# Altium integrated library Microchip PIC16 Part 1.IntLib: 1800 symbols (part 63 of 93)
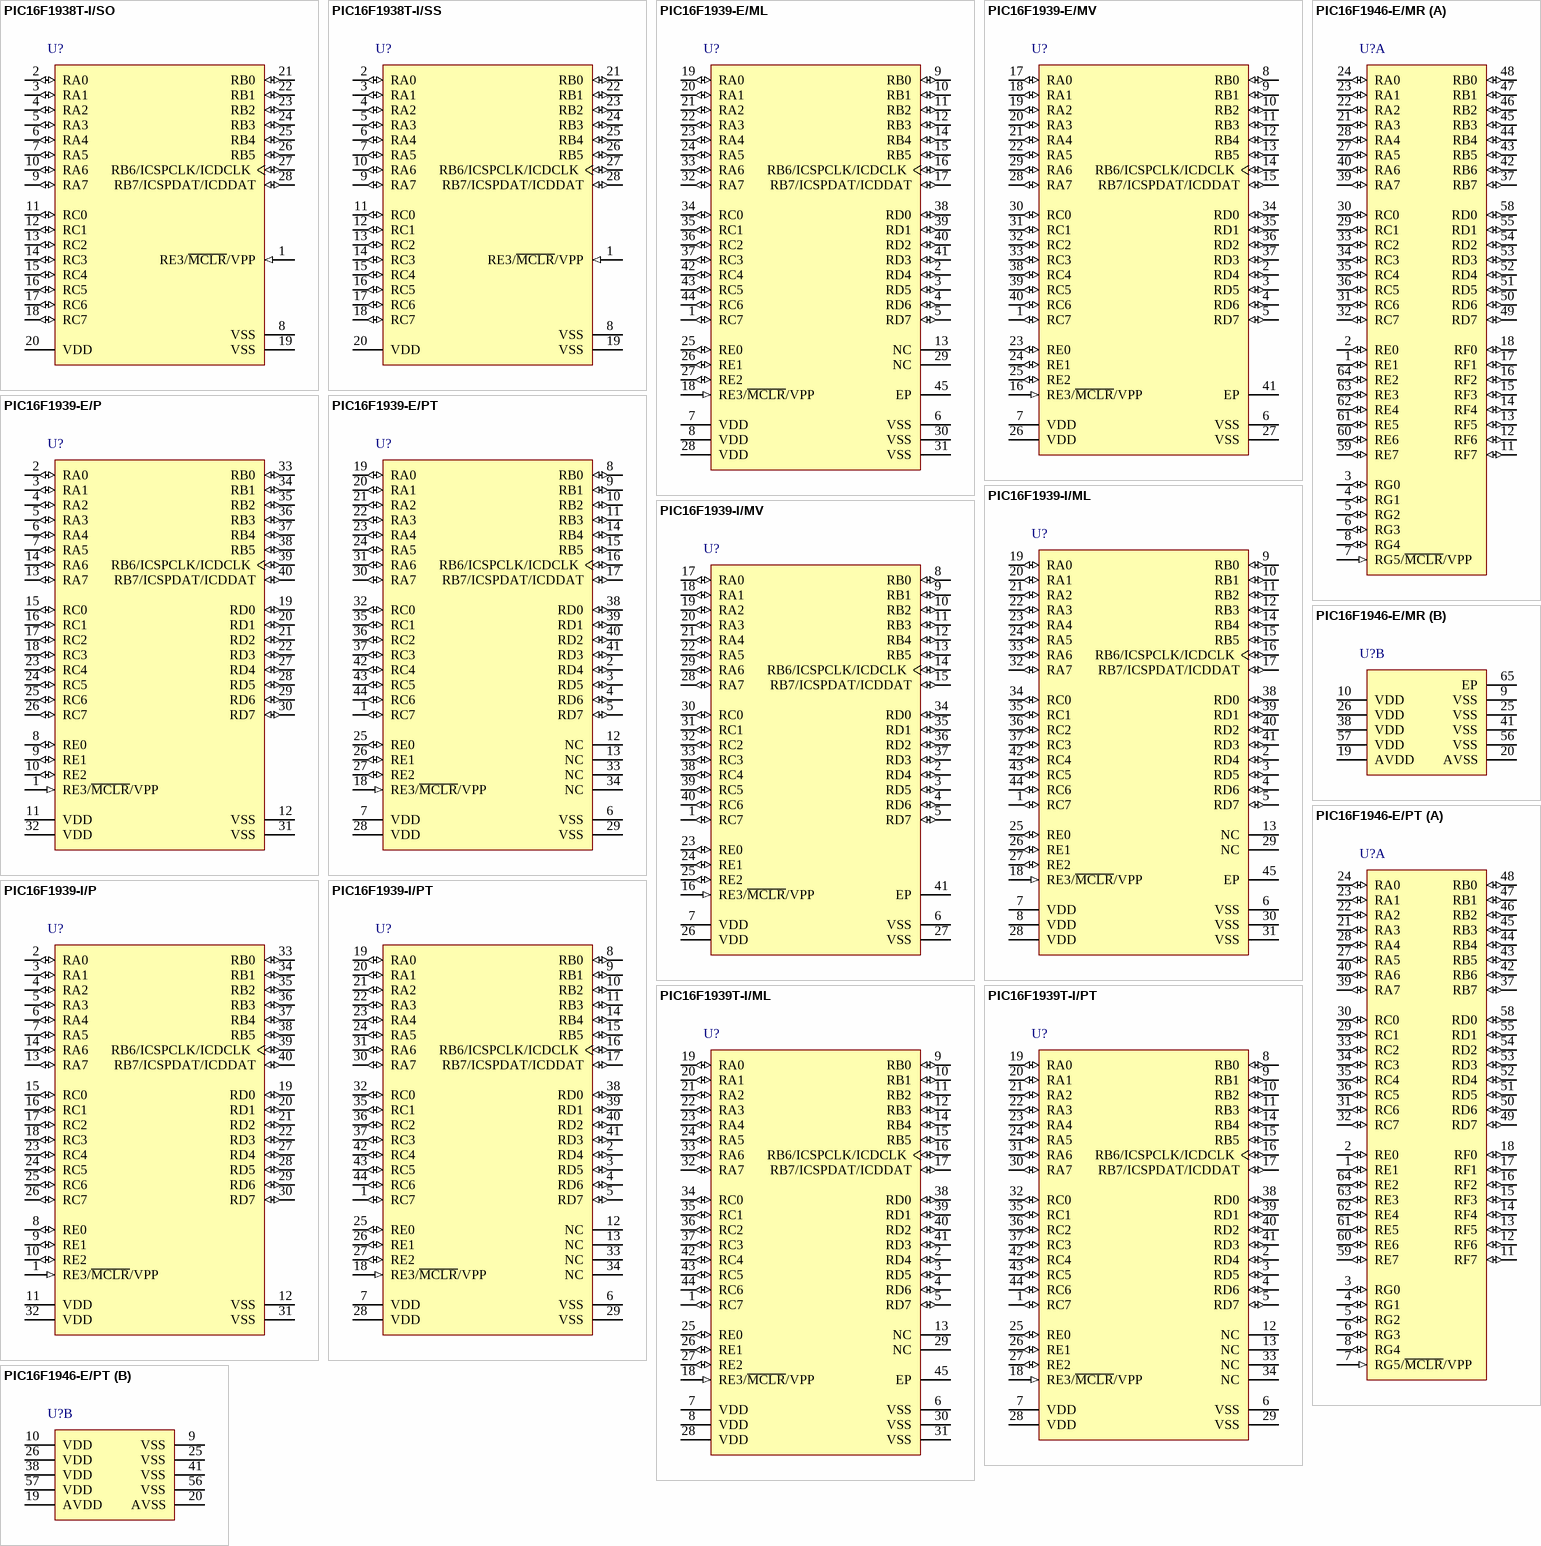
[diagram p161: symbols PIC16F1938T-I/SO to PIC16F1946-E/PT]

## PIC16F1946-E/PT
designator U?
Flash-Based, 8-Bit CMOS Microcontroller with LCD Driver and nanoWatt XLP Technology, 32 MHz, 53 I/O, -40 to 125 degC, 64-pin TQFP (PT64), Tray; Manufacturer: Microchip; PartNumber: PIC16F1946-E/PT; # of A/D Channels: 17; Digital Communication: 2 -A/E/USART, 2 -MSSP(SPI/I2C); EEPROM Data Memory (bytes): 256; I/O Pins: 53; Internal Oscillator: 32 MHz, 31 kHz; Max. CPU Speed MHz: 32; Memory Type: Flash; Operation Voltage Range: 1.8V - 5.5V; Program Memory KBytes: 14; Program Memory KWords: 8; RAM: 512; Timers: 4 - 8-bit, 1 - 16-bit; DatasheetVersion: Rev. D; PackageVersion: C04-085B, 12/2012; PackageReference: TQFP-PT64; PackageDescription: 64-Lead Plastic Thin Quad FlatPack, 10 x 10 mm Body, 0.5 mm Pitch; Supplier 1: Digi-Key; Supplier Part Number 1: PIC16F1946-E/PT-ND; Supplier 2: Farnell; Supplier Part Number 2: 1778452; Supplier 3: Farnell; Supplier Part Number 3: 1778452MPKG; Supplier 4: Newark; Supplier Part Number 4: 52R6174; Supplier 5: Newark; Supplier Part Number 5: 14R8974; Supplier 6: Mouser; Supplier Part Number 6: 579-PIC16F1946-E/PT; Packing: TRAY; RoHS: TRUE; Mounting Technology: Surface Mount; ComponentLink1Description: Datasheet; ComponentLink1URL: http://ww1.microchip.com/downloads/en/DeviceDoc/41414D.pdf; ComponentLink2Description: Package Specification; ComponentLink2URL: http://www.microchip.com/stellent/groups/techpub_sg/documents/packagingspec/en012702.pdf; ComponentLink3Description: URL Link1; ComponentLink3URL: Product URL:http://www.microchip.com/datasheet/PIC16F1946
footprint MCHP-TQFP-PT64_N (TQFP, 64-Leads, Body 10x10mm, Pitch 0.5mm, IPC Medium Density)
footprint MCHP-TQFP-PT64_L (TQFP, 64-Leads, Body 10x10mm, Pitch 0.5mm, IPC High Density)
footprint MCHP-TQFP-PT64_M (TQFP, 64-Leads, Body 10x10mm, Pitch 0.5mm, IPC Low Density)
part A pins: 1 RE1 (io), 2 RE0 (io), 3 RG0 (io), 4 RG1 (io), 5 RG2 (io), 6 RG3 (io), 7 RG5/~{MCLR}/VPP (in), 8 RG4 (io), 11 RF7 (io), 12 RF6 (io), 13 RF5 (io), 14 RF4 (io), 15 RF3 (io), 16 RF2 (io), 17 RF1 (io), 18 RF0 (io), 21 RA3 (io), 22 RA2 (io), 23 RA1 (io), 24 RA0 (io), 27 RA5 (io), 28 RA4 (io), 29 RC1 (io), 30 RC0 (io), 31 RC6 (io), 32 RC7 (io), 33 RC2 (io), 34 RC3 (io), 35 RC4 (io), 36 RC5 (io), 37 RB7 (io), 39 RA7 (io), 40 RA6 (io), 42 RB6 (io), 43 RB5 (io), 44 RB4 (io), 45 RB3 (io), 46 RB2 (io), 47 RB1 (io), 48 RB0 (io), 49 RD7 (io), 50 RD6 (io), 51 RD5 (io), 52 RD4 (io), 53 RD3 (io), 54 RD2 (io), 55 RD1 (io), 58 RD0 (io), 59 RE7 (io), 60 RE6 (io), 61 RE5 (io), 62 RE4 (io), 63 RE3 (io), 64 RE2 (io)
part B pins: 9 VSS (power) "Ground reference.", 10 VDD (power) "Positive supply.", 19 AVDD (power) "Analog positive supply.", 20 AVSS (power) "Analog ground reference.", 25 VSS (power) "Ground reference.", 26 VDD (power) "Positive supply.", 38 VDD (power) "Positive supply.", 41 VSS (power) "Ground reference.", 56 VSS (power) "Ground reference.", 57 VDD (power) "Positive supply."

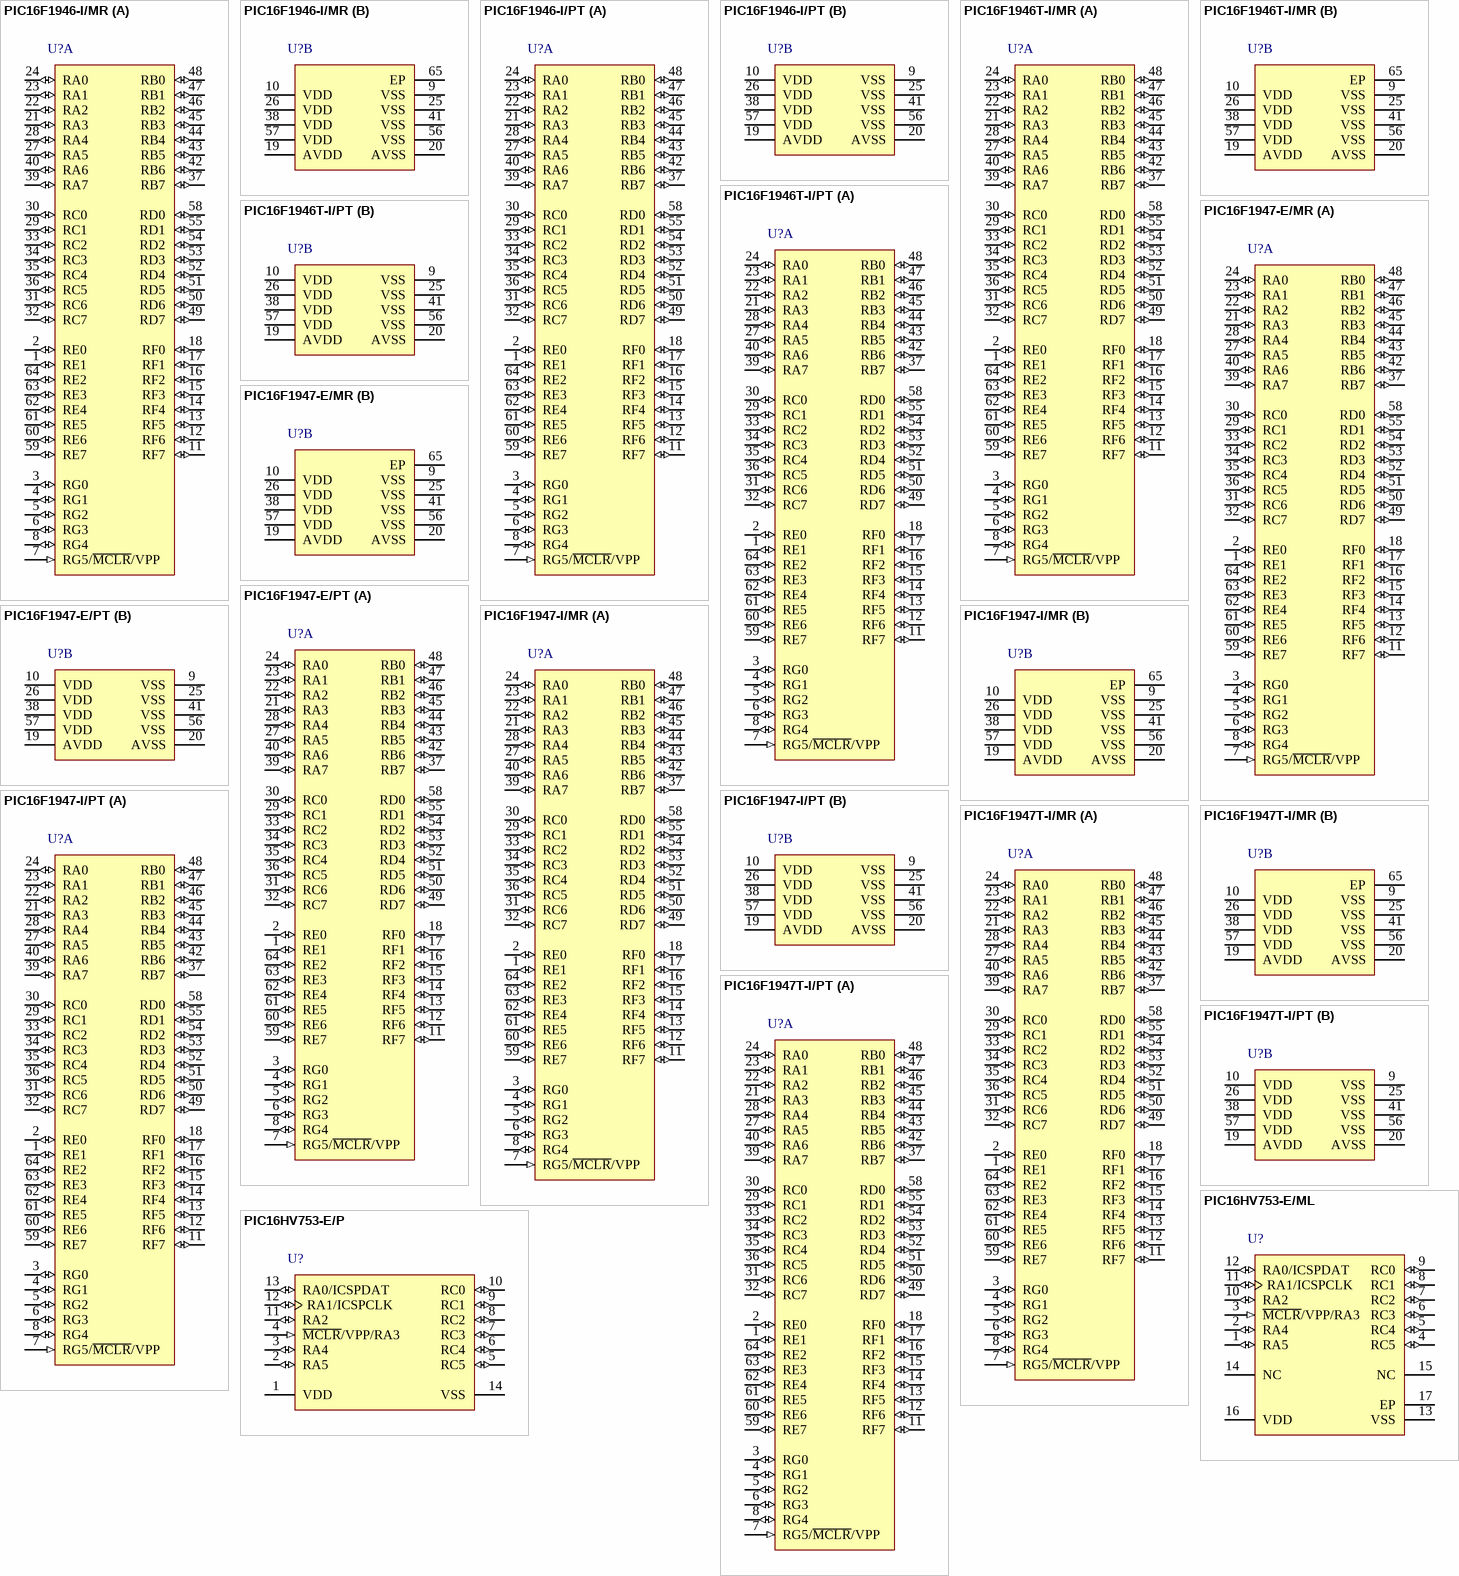
[diagram p64: symbols PIC16F1946-I/MR to PIC16HV753-E/P]

## PIC16F1946-I/MR
designator U?
Flash-Based, 8-Bit CMOS Microcontroller with LCD Driver and nanoWatt XLP Technology, 32 MHz, 53 I/O, -40 to 85 degC, 64-pin QFN (MR64), Tube; Manufacturer: Microchip; PartNumber: PIC16F1946-I/MR; # of A/D Channels: 17; Digital Communication: 2 -A/E/USART, 2 -MSSP(SPI/I2C); EEPROM Data Memory (bytes): 256; I/O Pins: 53; Internal Oscillator: 32 MHz, 31 kHz; Max. CPU Speed MHz: 32; Memory Type: Flash; Operation Voltage Range: 1.8V - 5.5V; Program Memory KBytes: 14; Program Memory KWords: 8; RAM: 512; Timers: 4 - 8-bit, 1 - 16-bit; DatasheetVersion: Rev. D; PackageVersion: C04-213A, 04/2013; PackageReference: QFN-MR64; PackageDescription: 64-Lead Plastic Quad Flat, No Lead Package, Body 9 x 9 mm, Pitch 0.5 mm; Supplier 1: Digi-Key; Supplier Part Number 1: PIC16F1946-I/MR-ND; Supplier 2: Farnell; Supplier Part Number 2: 1840984; Supplier 3: Farnell; Supplier Part Number 3: 1821962; Supplier 4: Newark; Supplier Part Number 4: 73R8390; Supplier 5: Mouser; Supplier Part Number 5: 579-PIC16F1946-I/MR; Packing: TUBE; RoHS: TRUE; Mounting Technology: Surface Mount; ComponentLink1Description: Datasheet; ComponentLink1URL: http://ww1.microchip.com/downloads/en/DeviceDoc/41414D.pdf; ComponentLink2Description: Package Specification; ComponentLink2URL: http://www.microchip.com/stellent/groups/techpub_sg/documents/packagingspec/en012702.pdf; ComponentLink3Description: URL Link1; ComponentLink3URL: Product URL:http://www.microchip.com/datasheet/PIC16F1946
footprint MCHP-QFN-MR64-7700X7700TP_N (QFN, 64-Leads, Body 9x9mm, Pitch 0.5mm, Thermal Pad 7.7x7.7mm, IPC Medium Density)
footprint MCHP-QFN-MR64-7700X7700TP_L (QFN, 64-Leads, Body 9x9mm, Pitch 0.5mm, Thermal Pad 7.7x7.7mm, IPC High Density)
footprint MCHP-QFN-MR64-7700X7700TP_M (QFN, 64-Leads, Body 9x9mm, Pitch 0.5mm, Thermal Pad 7.7x7.7mm, IPC Low Density)
part A pins: 1 RE1 (io), 2 RE0 (io), 3 RG0 (io), 4 RG1 (io), 5 RG2 (io), 6 RG3 (io), 7 RG5/~{MCLR}/VPP (in), 8 RG4 (io), 11 RF7 (io), 12 RF6 (io), 13 RF5 (io), 14 RF4 (io), 15 RF3 (io), 16 RF2 (io), 17 RF1 (io), 18 RF0 (io), 21 RA3 (io), 22 RA2 (io), 23 RA1 (io), 24 RA0 (io), 27 RA5 (io), 28 RA4 (io), 29 RC1 (io), 30 RC0 (io), 31 RC6 (io), 32 RC7 (io), 33 RC2 (io), 34 RC3 (io), 35 RC4 (io), 36 RC5 (io), 37 RB7 (io), 39 RA7 (io), 40 RA6 (io), 42 RB6 (io), 43 RB5 (io), 44 RB4 (io), 45 RB3 (io), 46 RB2 (io), 47 RB1 (io), 48 RB0 (io), 49 RD7 (io), 50 RD6 (io), 51 RD5 (io), 52 RD4 (io), 53 RD3 (io), 54 RD2 (io), 55 RD1 (io), 58 RD0 (io), 59 RE7 (io), 60 RE6 (io), 61 RE5 (io), 62 RE4 (io), 63 RE3 (io), 64 RE2 (io)
part B pins: 9 VSS (power) "Ground reference.", 10 VDD (power) "Positive supply.", 19 AVDD (power) "Analog positive supply.", 20 AVSS (power) "Analog ground reference.", 25 VSS (power) "Ground reference.", 26 VDD (power) "Positive supply.", 38 VDD (power) "Positive supply.", 41 VSS (power) "Ground reference.", 56 VSS (power) "Ground reference.", 57 VDD (power) "Positive supply.", 65 EP

## PIC16F1946-I/PT
designator U?
Flash-Based, 8-Bit CMOS Microcontroller with LCD Driver and nanoWatt XLP Technology, 32 MHz, 53 I/O, -40 to 85 degC, 64-pin TQFP (PT64), Tray; Manufacturer: Microchip; PartNumber: PIC16F1946-I/PT; # of A/D Channels: 17; Digital Communication: 2 -A/E/USART, 2 -MSSP(SPI/I2C); EEPROM Data Memory (bytes): 256; I/O Pins: 53; Internal Oscillator: 32 MHz, 31 kHz; Max. CPU Speed MHz: 32; Memory Type: Flash; Operation Voltage Range: 1.8V - 5.5V; Program Memory KBytes: 14; Program Memory KWords: 8; RAM: 512; Timers: 4 - 8-bit, 1 - 16-bit; DatasheetVersion: Rev. D; PackageVersion: C04-085B, 12/2012; PackageReference: TQFP-PT64; PackageDescription: 64-Lead Plastic Thin Quad FlatPack, 10 x 10 mm Body, 0.5 mm Pitch; Supplier 1: Digi-Key; Supplier Part Number 1: PIC16F1946-I/PT-ND; Supplier 2: Farnell; Supplier Part Number 2: 1778453; Supplier 3: Farnell; Supplier Part Number 3: 1778453MPKG; Supplier 4: Newark; Supplier Part Number 4: 14R8975; Supplier 5: Mouser; Supplier Part Number 5: 579-PIC16F1946-I/PT; Packing: TRAY; RoHS: TRUE; Mounting Technology: Surface Mount; ComponentLink1Description: Datasheet; ComponentLink1URL: http://ww1.microchip.com/downloads/en/DeviceDoc/41414D.pdf; ComponentLink2Description: Package Specification; ComponentLink2URL: http://www.microchip.com/stellent/groups/techpub_sg/documents/packagingspec/en012702.pdf; ComponentLink3Description: URL Link1; ComponentLink3URL: Product URL:http://www.microchip.com/datasheet/PIC16F1946
footprint MCHP-TQFP-PT64_N (TQFP, 64-Leads, Body 10x10mm, Pitch 0.5mm, IPC Medium Density)
footprint MCHP-TQFP-PT64_L (TQFP, 64-Leads, Body 10x10mm, Pitch 0.5mm, IPC High Density)
footprint MCHP-TQFP-PT64_M (TQFP, 64-Leads, Body 10x10mm, Pitch 0.5mm, IPC Low Density)
part A pins: 1 RE1 (io), 2 RE0 (io), 3 RG0 (io), 4 RG1 (io), 5 RG2 (io), 6 RG3 (io), 7 RG5/~{MCLR}/VPP (in), 8 RG4 (io), 11 RF7 (io), 12 RF6 (io), 13 RF5 (io), 14 RF4 (io), 15 RF3 (io), 16 RF2 (io), 17 RF1 (io), 18 RF0 (io), 21 RA3 (io), 22 RA2 (io), 23 RA1 (io), 24 RA0 (io), 27 RA5 (io), 28 RA4 (io), 29 RC1 (io), 30 RC0 (io), 31 RC6 (io), 32 RC7 (io), 33 RC2 (io), 34 RC3 (io), 35 RC4 (io), 36 RC5 (io), 37 RB7 (io), 39 RA7 (io), 40 RA6 (io), 42 RB6 (io), 43 RB5 (io), 44 RB4 (io), 45 RB3 (io), 46 RB2 (io), 47 RB1 (io), 48 RB0 (io), 49 RD7 (io), 50 RD6 (io), 51 RD5 (io), 52 RD4 (io), 53 RD3 (io), 54 RD2 (io), 55 RD1 (io), 58 RD0 (io), 59 RE7 (io), 60 RE6 (io), 61 RE5 (io), 62 RE4 (io), 63 RE3 (io), 64 RE2 (io)
part B pins: 9 VSS (power) "Ground reference.", 10 VDD (power) "Positive supply.", 19 AVDD (power) "Analog positive supply.", 20 AVSS (power) "Analog ground reference.", 25 VSS (power) "Ground reference.", 26 VDD (power) "Positive supply.", 38 VDD (power) "Positive supply.", 41 VSS (power) "Ground reference.", 56 VSS (power) "Ground reference.", 57 VDD (power) "Positive supply."

## PIC16F1946T-I/MR
designator U?
Flash-Based, 8-Bit CMOS Microcontroller with LCD Driver and nanoWatt XLP Technology, 32 MHz, 53 I/O, -40 to 85 degC, 64-pin QFN (MR64), Tape and Reel; Manufacturer: Microchip; PartNumber: PIC16F1946T-I/MR; # of A/D Channels: 17; Digital Communication: 2 -A/E/USART, 2 -MSSP(SPI/I2C); EEPROM Data Memory (bytes): 256; I/O Pins: 53; Internal Oscillator: 32 MHz, 31 kHz; Max. CPU Speed MHz: 32; Memory Type: Flash; Operation Voltage Range: 1.8V - 5.5V; Packing: T/R; Program Memory KBytes: 14; Program Memory KWords: 8; RAM: 512; Timers: 4 - 8-bit, 1 - 16-bit; DatasheetVersion: Rev. D; PackageVersion: C04-213A, 04/2013; PackageReference: QFN-MR64; PackageDescription: 64-Lead Plastic Quad Flat, No Lead Package, Body 9 x 9 mm, Pitch 0.5 mm; Supplier 1: Digi-Key; Supplier Part Number 1: PIC16F1946T-I/MR-ND; Supplier 2: Mouser; Supplier Part Number 2: 579-PIC16F1946T-I/MR; RoHS: TRUE; Mounting Technology: Surface Mount; ComponentLink1Description: Datasheet; ComponentLink1URL: http://ww1.microchip.com/downloads/en/DeviceDoc/41414D.pdf; ComponentLink2Description: Package Specification; ComponentLink2URL: http://www.microchip.com/stellent/groups/techpub_sg/documents/packagingspec/en012702.pdf; ComponentLink3Description: URL Link1; ComponentLink3URL: Product URL:http://www.microchip.com/datasheet/PIC16F1946
footprint MCHP-QFN-MR64-7700X7700TP_N (QFN, 64-Leads, Body 9x9mm, Pitch 0.5mm, Thermal Pad 7.7x7.7mm, IPC Medium Density)
footprint MCHP-QFN-MR64-7700X7700TP_L (QFN, 64-Leads, Body 9x9mm, Pitch 0.5mm, Thermal Pad 7.7x7.7mm, IPC High Density)
footprint MCHP-QFN-MR64-7700X7700TP_M (QFN, 64-Leads, Body 9x9mm, Pitch 0.5mm, Thermal Pad 7.7x7.7mm, IPC Low Density)
part A pins: 1 RE1 (io), 2 RE0 (io), 3 RG0 (io), 4 RG1 (io), 5 RG2 (io), 6 RG3 (io), 7 RG5/~{MCLR}/VPP (in), 8 RG4 (io), 11 RF7 (io), 12 RF6 (io), 13 RF5 (io), 14 RF4 (io), 15 RF3 (io), 16 RF2 (io), 17 RF1 (io), 18 RF0 (io), 21 RA3 (io), 22 RA2 (io), 23 RA1 (io), 24 RA0 (io), 27 RA5 (io), 28 RA4 (io), 29 RC1 (io), 30 RC0 (io), 31 RC6 (io), 32 RC7 (io), 33 RC2 (io), 34 RC3 (io), 35 RC4 (io), 36 RC5 (io), 37 RB7 (io), 39 RA7 (io), 40 RA6 (io), 42 RB6 (io), 43 RB5 (io), 44 RB4 (io), 45 RB3 (io), 46 RB2 (io), 47 RB1 (io), 48 RB0 (io), 49 RD7 (io), 50 RD6 (io), 51 RD5 (io), 52 RD4 (io), 53 RD3 (io), 54 RD2 (io), 55 RD1 (io), 58 RD0 (io), 59 RE7 (io), 60 RE6 (io), 61 RE5 (io), 62 RE4 (io), 63 RE3 (io), 64 RE2 (io)
part B pins: 9 VSS (power) "Ground reference.", 10 VDD (power) "Positive supply.", 19 AVDD (power) "Analog positive supply.", 20 AVSS (power) "Analog ground reference.", 25 VSS (power) "Ground reference.", 26 VDD (power) "Positive supply.", 38 VDD (power) "Positive supply.", 41 VSS (power) "Ground reference.", 56 VSS (power) "Ground reference.", 57 VDD (power) "Positive supply.", 65 EP

## PIC16F1946T-I/PT
designator U?
Flash-Based, 8-Bit CMOS Microcontroller with LCD Driver and nanoWatt XLP Technology, 32 MHz, 53 I/O, -40 to 85 degC, 64-pin TQFP (PT64), Tape and Reel; Manufacturer: Microchip; PartNumber: PIC16F1946T-I/PT; # of A/D Channels: 17; Digital Communication: 2 -A/E/USART, 2 -MSSP(SPI/I2C); EEPROM Data Memory (bytes): 256; I/O Pins: 53; Internal Oscillator: 32 MHz, 31 kHz; Max. CPU Speed MHz: 32; Memory Type: Flash; Operation Voltage Range: 1.8V - 5.5V; Packing: T/R; Program Memory KBytes: 14; Program Memory KWords: 8; RAM: 512; Timers: 4 - 8-bit, 1 - 16-bit; DatasheetVersion: Rev. D; PackageVersion: C04-085B, 12/2012; PackageReference: TQFP-PT64; PackageDescription: 64-Lead Plastic Thin Quad FlatPack, 10 x 10 mm Body, 0.5 mm Pitch; Supplier 1: Digi-Key; Supplier Part Number 1: PIC16F1946T-I/PT-ND; Supplier 2: Mouser; Supplier Part Number 2: 579-PIC16F1946T-I/PT; RoHS: TRUE; Mounting Technology: Surface Mount; ComponentLink1Description: Datasheet; ComponentLink1URL: http://ww1.microchip.com/downloads/en/DeviceDoc/41414D.pdf; ComponentLink2Description: Package Specification; ComponentLink2URL: http://www.microchip.com/stellent/groups/techpub_sg/documents/packagingspec/en012702.pdf; ComponentLink3Description: URL Link1; ComponentLink3URL: Product URL:http://www.microchip.com/datasheet/PIC16F1946
footprint MCHP-TQFP-PT64_N (TQFP, 64-Leads, Body 10x10mm, Pitch 0.5mm, IPC Medium Density)
footprint MCHP-TQFP-PT64_L (TQFP, 64-Leads, Body 10x10mm, Pitch 0.5mm, IPC High Density)
footprint MCHP-TQFP-PT64_M (TQFP, 64-Leads, Body 10x10mm, Pitch 0.5mm, IPC Low Density)
part A pins: 1 RE1 (io), 2 RE0 (io), 3 RG0 (io), 4 RG1 (io), 5 RG2 (io), 6 RG3 (io), 7 RG5/~{MCLR}/VPP (in), 8 RG4 (io), 11 RF7 (io), 12 RF6 (io), 13 RF5 (io), 14 RF4 (io), 15 RF3 (io), 16 RF2 (io), 17 RF1 (io), 18 RF0 (io), 21 RA3 (io), 22 RA2 (io), 23 RA1 (io), 24 RA0 (io), 27 RA5 (io), 28 RA4 (io), 29 RC1 (io), 30 RC0 (io), 31 RC6 (io), 32 RC7 (io), 33 RC2 (io), 34 RC3 (io), 35 RC4 (io), 36 RC5 (io), 37 RB7 (io), 39 RA7 (io), 40 RA6 (io), 42 RB6 (io), 43 RB5 (io), 44 RB4 (io), 45 RB3 (io), 46 RB2 (io), 47 RB1 (io), 48 RB0 (io), 49 RD7 (io), 50 RD6 (io), 51 RD5 (io), 52 RD4 (io), 53 RD3 (io), 54 RD2 (io), 55 RD1 (io), 58 RD0 (io), 59 RE7 (io), 60 RE6 (io), 61 RE5 (io), 62 RE4 (io), 63 RE3 (io), 64 RE2 (io)
part B pins: 9 VSS (power) "Ground reference.", 10 VDD (power) "Positive supply.", 19 AVDD (power) "Analog positive supply.", 20 AVSS (power) "Analog ground reference.", 25 VSS (power) "Ground reference.", 26 VDD (power) "Positive supply.", 38 VDD (power) "Positive supply.", 41 VSS (power) "Ground reference.", 56 VSS (power) "Ground reference.", 57 VDD (power) "Positive supply."

## PIC16F1947-E/MR
designator U?
Flash-Based, 8-Bit CMOS Microcontroller with LCD Driver and nanoWatt XLP Technology, 32 MHz, 53 I/O, -40 to 125 degC, 64-pin QFN (MR64), Tube; Manufacturer: Microchip; PartNumber: PIC16F1947-E/MR; # of A/D Channels: 17; Digital Communication: 2 -A/E/USART, 2 -MSSP(SPI/I2C); EEPROM Data Memory (bytes): 256; I/O Pins: 53; Internal Oscillator: 32 MHz, 31 kHz; Max. CPU Speed MHz: 32; Memory Type: Flash; Operation Voltage Range: 1.8V - 5.5V; Program Memory KBytes: 28; Program Memory KWords: 16; RAM: 1024; Timers: 4 - 8-bit, 1 - 16-bit; DatasheetVersion: Rev. D; PackageVersion: C04-213A, 04/2013; PackageReference: QFN-MR64; PackageDescription: 64-Lead Plastic Quad Flat, No Lead Package, Body 9 x 9 mm, Pitch 0.5 mm; Supplier 1: Digi-Key; Supplier Part Number 1: PIC16F1947-E/MR-ND; Supplier 2: Mouser; Supplier Part Number 2: 579-PIC16F1947-E/MR; Packing: TUBE; RoHS: TRUE; Mounting Technology: Surface Mount; ComponentLink1Description: Datasheet; ComponentLink1URL: http://ww1.microchip.com/downloads/en/DeviceDoc/41414D.pdf; ComponentLink2Description: Package Specification; ComponentLink2URL: http://www.microchip.com/stellent/groups/techpub_sg/documents/packagingspec/en012702.pdf; ComponentLink3Description: URL Link1; ComponentLink3URL: Product URL:http://www.microchip.com/datasheet/PIC16F1947
footprint MCHP-QFN-MR64-7700X7700TP_N (QFN, 64-Leads, Body 9x9mm, Pitch 0.5mm, Thermal Pad 7.7x7.7mm, IPC Medium Density)
footprint MCHP-QFN-MR64-7700X7700TP_L (QFN, 64-Leads, Body 9x9mm, Pitch 0.5mm, Thermal Pad 7.7x7.7mm, IPC High Density)
footprint MCHP-QFN-MR64-7700X7700TP_M (QFN, 64-Leads, Body 9x9mm, Pitch 0.5mm, Thermal Pad 7.7x7.7mm, IPC Low Density)
part A pins: 1 RE1 (io), 2 RE0 (io), 3 RG0 (io), 4 RG1 (io), 5 RG2 (io), 6 RG3 (io), 7 RG5/~{MCLR}/VPP (in), 8 RG4 (io), 11 RF7 (io), 12 RF6 (io), 13 RF5 (io), 14 RF4 (io), 15 RF3 (io), 16 RF2 (io), 17 RF1 (io), 18 RF0 (io), 21 RA3 (io), 22 RA2 (io), 23 RA1 (io), 24 RA0 (io), 27 RA5 (io), 28 RA4 (io), 29 RC1 (io), 30 RC0 (io), 31 RC6 (io), 32 RC7 (io), 33 RC2 (io), 34 RC3 (io), 35 RC4 (io), 36 RC5 (io), 37 RB7 (io), 39 RA7 (io), 40 RA6 (io), 42 RB6 (io), 43 RB5 (io), 44 RB4 (io), 45 RB3 (io), 46 RB2 (io), 47 RB1 (io), 48 RB0 (io), 49 RD7 (io), 50 RD6 (io), 51 RD5 (io), 52 RD4 (io), 53 RD3 (io), 54 RD2 (io), 55 RD1 (io), 58 RD0 (io), 59 RE7 (io), 60 RE6 (io), 61 RE5 (io), 62 RE4 (io), 63 RE3 (io), 64 RE2 (io)
part B pins: 9 VSS (power) "Ground reference.", 10 VDD (power) "Positive supply.", 19 AVDD (power) "Analog positive supply.", 20 AVSS (power) "Analog ground reference.", 25 VSS (power) "Ground reference.", 26 VDD (power) "Positive supply.", 38 VDD (power) "Positive supply.", 41 VSS (power) "Ground reference.", 56 VSS (power) "Ground reference.", 57 VDD (power) "Positive supply.", 65 EP

## PIC16F1947-E/PT
designator U?
Flash-Based, 8-Bit CMOS Microcontroller with LCD Driver and nanoWatt XLP Technology, 32 MHz, 53 I/O, -40 to 125 degC, 64-pin TQFP (PT64), Tray; Manufacturer: Microchip; PartNumber: PIC16F1947-E/PT; # of A/D Channels: 17; Digital Communication: 2 -A/E/USART, 2 -MSSP(SPI/I2C); EEPROM Data Memory (bytes): 256; I/O Pins: 53; Internal Oscillator: 32 MHz, 31 kHz; Max. CPU Speed MHz: 32; Memory Type: Flash; Operation Voltage Range: 1.8V - 5.5V; Program Memory KBytes: 28; Program Memory KWords: 16; RAM: 1024; Timers: 4 - 8-bit, 1 - 16-bit; DatasheetVersion: Rev. D; PackageVersion: C04-085B, 12/2012; PackageReference: TQFP-PT64; PackageDescription: 64-Lead Plastic Thin Quad FlatPack, 10 x 10 mm Body, 0.5 mm Pitch; Supplier 1: Digi-Key; Supplier Part Number 1: PIC16F1947-E/PT-ND; Supplier 2: Farnell; Supplier Part Number 2: 1778454MPKG; Supplier 3: Farnell; Supplier Part Number 3: 1778454; Supplier 4: Newark; Supplier Part Number 4: 14R8977; Supplier 5: Mouser; Supplier Part Number 5: 579-PIC16F1947-E/PT; Packing: TRAY; RoHS: TRUE; Mounting Technology: Surface Mount; ComponentLink1Description: Datasheet; ComponentLink1URL: http://ww1.microchip.com/downloads/en/DeviceDoc/41414D.pdf; ComponentLink2Description: Package Specification; ComponentLink2URL: http://www.microchip.com/stellent/groups/techpub_sg/documents/packagingspec/en012702.pdf; ComponentLink3Description: URL Link1; ComponentLink3URL: Product URL:http://www.microchip.com/datasheet/PIC16F1947
footprint MCHP-TQFP-PT64_N (TQFP, 64-Leads, Body 10x10mm, Pitch 0.5mm, IPC Medium Density)
footprint MCHP-TQFP-PT64_L (TQFP, 64-Leads, Body 10x10mm, Pitch 0.5mm, IPC High Density)
footprint MCHP-TQFP-PT64_M (TQFP, 64-Leads, Body 10x10mm, Pitch 0.5mm, IPC Low Density)
part A pins: 1 RE1 (io), 2 RE0 (io), 3 RG0 (io), 4 RG1 (io), 5 RG2 (io), 6 RG3 (io), 7 RG5/~{MCLR}/VPP (in), 8 RG4 (io), 11 RF7 (io), 12 RF6 (io), 13 RF5 (io), 14 RF4 (io), 15 RF3 (io), 16 RF2 (io), 17 RF1 (io), 18 RF0 (io), 21 RA3 (io), 22 RA2 (io), 23 RA1 (io), 24 RA0 (io), 27 RA5 (io), 28 RA4 (io), 29 RC1 (io), 30 RC0 (io), 31 RC6 (io), 32 RC7 (io), 33 RC2 (io), 34 RC3 (io), 35 RC4 (io), 36 RC5 (io), 37 RB7 (io), 39 RA7 (io), 40 RA6 (io), 42 RB6 (io), 43 RB5 (io), 44 RB4 (io), 45 RB3 (io), 46 RB2 (io), 47 RB1 (io), 48 RB0 (io), 49 RD7 (io), 50 RD6 (io), 51 RD5 (io), 52 RD4 (io), 53 RD3 (io), 54 RD2 (io), 55 RD1 (io), 58 RD0 (io), 59 RE7 (io), 60 RE6 (io), 61 RE5 (io), 62 RE4 (io), 63 RE3 (io), 64 RE2 (io)
part B pins: 9 VSS (power) "Ground reference.", 10 VDD (power) "Positive supply.", 19 AVDD (power) "Analog positive supply.", 20 AVSS (power) "Analog ground reference.", 25 VSS (power) "Ground reference.", 26 VDD (power) "Positive supply.", 38 VDD (power) "Positive supply.", 41 VSS (power) "Ground reference.", 56 VSS (power) "Ground reference.", 57 VDD (power) "Positive supply."

## PIC16F1947-I/MR
designator U?
Flash-Based, 8-Bit CMOS Microcontroller with LCD Driver and nanoWatt XLP Technology, 32 MHz, 53 I/O, -40 to 85 degC, 64-pin QFN (MR64), Tube; Manufacturer: Microchip; PartNumber: PIC16F1947-I/MR; # of A/D Channels: 17; Digital Communication: 2 -A/E/USART, 2 -MSSP(SPI/I2C); EEPROM Data Memory (bytes): 256; I/O Pins: 53; Internal Oscillator: 32 MHz, 31 kHz; Max. CPU Speed MHz: 32; Memory Type: Flash; Operation Voltage Range: 1.8V - 5.5V; Program Memory KBytes: 28; Program Memory KWords: 16; RAM: 1024; Timers: 4 - 8-bit, 1 - 16-bit; DatasheetVersion: Rev. D; PackageVersion: C04-213A, 04/2013; PackageReference: QFN-MR64; PackageDescription: 64-Lead Plastic Quad Flat, No Lead Package, Body 9 x 9 mm, Pitch 0.5 mm; Supplier 1: Digi-Key; Supplier Part Number 1: PIC16F1947-I/MR-ND; Supplier 2: Farnell; Supplier Part Number 2: 1840985; Supplier 3: Farnell; Supplier Part Number 3: 1821963; Supplier 4: Newark; Supplier Part Number 4: 73R8393; Supplier 5: Mouser; Supplier Part Number 5: 579-PIC16F1947-I/MR; Packing: TUBE; RoHS: TRUE; Mounting Technology: Surface Mount; ComponentLink1Description: Datasheet; ComponentLink1URL: http://ww1.microchip.com/downloads/en/DeviceDoc/41414D.pdf; ComponentLink2Description: Package Specification; ComponentLink2URL: http://www.microchip.com/stellent/groups/techpub_sg/documents/packagingspec/en012702.pdf; ComponentLink3Description: URL Link1; ComponentLink3URL: Product URL:http://www.microchip.com/datasheet/PIC16F1947
footprint MCHP-QFN-MR64-7700X7700TP_N (QFN, 64-Leads, Body 9x9mm, Pitch 0.5mm, Thermal Pad 7.7x7.7mm, IPC Medium Density)
footprint MCHP-QFN-MR64-7700X7700TP_L (QFN, 64-Leads, Body 9x9mm, Pitch 0.5mm, Thermal Pad 7.7x7.7mm, IPC High Density)
footprint MCHP-QFN-MR64-7700X7700TP_M (QFN, 64-Leads, Body 9x9mm, Pitch 0.5mm, Thermal Pad 7.7x7.7mm, IPC Low Density)
part A pins: 1 RE1 (io), 2 RE0 (io), 3 RG0 (io), 4 RG1 (io), 5 RG2 (io), 6 RG3 (io), 7 RG5/~{MCLR}/VPP (in), 8 RG4 (io), 11 RF7 (io), 12 RF6 (io), 13 RF5 (io), 14 RF4 (io), 15 RF3 (io), 16 RF2 (io), 17 RF1 (io), 18 RF0 (io), 21 RA3 (io), 22 RA2 (io), 23 RA1 (io), 24 RA0 (io), 27 RA5 (io), 28 RA4 (io), 29 RC1 (io), 30 RC0 (io), 31 RC6 (io), 32 RC7 (io), 33 RC2 (io), 34 RC3 (io), 35 RC4 (io), 36 RC5 (io), 37 RB7 (io), 39 RA7 (io), 40 RA6 (io), 42 RB6 (io), 43 RB5 (io), 44 RB4 (io), 45 RB3 (io), 46 RB2 (io), 47 RB1 (io), 48 RB0 (io), 49 RD7 (io), 50 RD6 (io), 51 RD5 (io), 52 RD4 (io), 53 RD3 (io), 54 RD2 (io), 55 RD1 (io), 58 RD0 (io), 59 RE7 (io), 60 RE6 (io), 61 RE5 (io), 62 RE4 (io), 63 RE3 (io), 64 RE2 (io)
part B pins: 9 VSS (power) "Ground reference.", 10 VDD (power) "Positive supply.", 19 AVDD (power) "Analog positive supply.", 20 AVSS (power) "Analog ground reference.", 25 VSS (power) "Ground reference.", 26 VDD (power) "Positive supply.", 38 VDD (power) "Positive supply.", 41 VSS (power) "Ground reference.", 56 VSS (power) "Ground reference.", 57 VDD (power) "Positive supply.", 65 EP

## PIC16F1947-I/PT
designator U?
Flash-Based, 8-Bit CMOS Microcontroller with LCD Driver and nanoWatt XLP Technology, 32 MHz, 53 I/O, -40 to 85 degC, 64-pin TQFP (PT64), Tray; Manufacturer: Microchip; PartNumber: PIC16F1947-I/PT; # of A/D Channels: 17; Digital Communication: 2 -A/E/USART, 2 -MSSP(SPI/I2C); EEPROM Data Memory (bytes): 256; I/O Pins: 53; Internal Oscillator: 32 MHz, 31 kHz; Max. CPU Speed MHz: 32; Memory Type: Flash; Operation Voltage Range: 1.8V - 5.5V; Program Memory KBytes: 28; Program Memory KWords: 16; RAM: 1024; Timers: 4 - 8-bit, 1 - 16-bit; DatasheetVersion: Rev. D; PackageVersion: C04-085B, 12/2012; PackageReference: TQFP-PT64; PackageDescription: 64-Lead Plastic Thin Quad FlatPack, 10 x 10 mm Body, 0.5 mm Pitch; Supplier 1: Digi-Key; Supplier Part Number 1: PIC16F1947-I/PT-ND; Supplier 2: Farnell; Supplier Part Number 2: 1778455MPKG; Supplier 3: Farnell; Supplier Part Number 3: 1778455; Supplier 4: Newark; Supplier Part Number 4: 14R8978; Supplier 5: Mouser; Supplier Part Number 5: 579-PIC16F1947-I/PT; Packing: TRAY; RoHS: TRUE; Mounting Technology: Surface Mount; ComponentLink1Description: Datasheet; ComponentLink1URL: http://ww1.microchip.com/downloads/en/DeviceDoc/41414D.pdf; ComponentLink2Description: Package Specification; ComponentLink2URL: http://www.microchip.com/stellent/groups/techpub_sg/documents/packagingspec/en012702.pdf; ComponentLink3Description: URL Link1; ComponentLink3URL: Product URL:http://www.microchip.com/datasheet/PIC16F1947
footprint MCHP-TQFP-PT64_N (TQFP, 64-Leads, Body 10x10mm, Pitch 0.5mm, IPC Medium Density)
footprint MCHP-TQFP-PT64_L (TQFP, 64-Leads, Body 10x10mm, Pitch 0.5mm, IPC High Density)
footprint MCHP-TQFP-PT64_M (TQFP, 64-Leads, Body 10x10mm, Pitch 0.5mm, IPC Low Density)
part A pins: 1 RE1 (io), 2 RE0 (io), 3 RG0 (io), 4 RG1 (io), 5 RG2 (io), 6 RG3 (io), 7 RG5/~{MCLR}/VPP (in), 8 RG4 (io), 11 RF7 (io), 12 RF6 (io), 13 RF5 (io), 14 RF4 (io), 15 RF3 (io), 16 RF2 (io), 17 RF1 (io), 18 RF0 (io), 21 RA3 (io), 22 RA2 (io), 23 RA1 (io), 24 RA0 (io), 27 RA5 (io), 28 RA4 (io), 29 RC1 (io), 30 RC0 (io), 31 RC6 (io), 32 RC7 (io), 33 RC2 (io), 34 RC3 (io), 35 RC4 (io), 36 RC5 (io), 37 RB7 (io), 39 RA7 (io), 40 RA6 (io), 42 RB6 (io), 43 RB5 (io), 44 RB4 (io), 45 RB3 (io), 46 RB2 (io), 47 RB1 (io), 48 RB0 (io), 49 RD7 (io), 50 RD6 (io), 51 RD5 (io), 52 RD4 (io), 53 RD3 (io), 54 RD2 (io), 55 RD1 (io), 58 RD0 (io), 59 RE7 (io), 60 RE6 (io), 61 RE5 (io), 62 RE4 (io), 63 RE3 (io), 64 RE2 (io)
part B pins: 9 VSS (power) "Ground reference.", 10 VDD (power) "Positive supply.", 19 AVDD (power) "Analog positive supply.", 20 AVSS (power) "Analog ground reference.", 25 VSS (power) "Ground reference.", 26 VDD (power) "Positive supply.", 38 VDD (power) "Positive supply.", 41 VSS (power) "Ground reference.", 56 VSS (power) "Ground reference.", 57 VDD (power) "Positive supply."

## PIC16F1947T-I/MR
designator U?
Flash-Based, 8-Bit CMOS Microcontroller with LCD Driver and nanoWatt XLP Technology, 32 MHz, 53 I/O, -40 to 85 degC, 64-pin QFN (MR64), Tape and Reel; Manufacturer: Microchip; PartNumber: PIC16F1947T-I/MR; # of A/D Channels: 17; Digital Communication: 2 -A/E/USART, 2 -MSSP(SPI/I2C); EEPROM Data Memory (bytes): 256; I/O Pins: 53; Internal Oscillator: 32 MHz, 31 kHz; Max. CPU Speed MHz: 32; Memory Type: Flash; Operation Voltage Range: 1.8V - 5.5V; Packing: T/R; Program Memory KBytes: 28; Program Memory KWords: 16; RAM: 1024; Timers: 4 - 8-bit, 1 - 16-bit; DatasheetVersion: Rev. D; PackageVersion: C04-213A, 04/2013; PackageReference: QFN-MR64; PackageDescription: 64-Lead Plastic Quad Flat, No Lead Package, Body 9 x 9 mm, Pitch 0.5 mm; Supplier 1: Digi-Key; Supplier Part Number 1: PIC16F1947T-I/MR-ND; Supplier 2: Mouser; Supplier Part Number 2: 579-PIC16F1947T-I/MR; RoHS: TRUE; Mounting Technology: Surface Mount; ComponentLink1Description: Datasheet; ComponentLink1URL: http://ww1.microchip.com/downloads/en/DeviceDoc/41414D.pdf; ComponentLink2Description: Package Specification; ComponentLink2URL: http://www.microchip.com/stellent/groups/techpub_sg/documents/packagingspec/en012702.pdf; ComponentLink3Description: URL Link1; ComponentLink3URL: Product URL:http://www.microchip.com/datasheet/PIC16F1947
footprint MCHP-QFN-MR64-7700X7700TP_N (QFN, 64-Leads, Body 9x9mm, Pitch 0.5mm, Thermal Pad 7.7x7.7mm, IPC Medium Density)
footprint MCHP-QFN-MR64-7700X7700TP_L (QFN, 64-Leads, Body 9x9mm, Pitch 0.5mm, Thermal Pad 7.7x7.7mm, IPC High Density)
footprint MCHP-QFN-MR64-7700X7700TP_M (QFN, 64-Leads, Body 9x9mm, Pitch 0.5mm, Thermal Pad 7.7x7.7mm, IPC Low Density)
part A pins: 1 RE1 (io), 2 RE0 (io), 3 RG0 (io), 4 RG1 (io), 5 RG2 (io), 6 RG3 (io), 7 RG5/~{MCLR}/VPP (in), 8 RG4 (io), 11 RF7 (io), 12 RF6 (io), 13 RF5 (io), 14 RF4 (io), 15 RF3 (io), 16 RF2 (io), 17 RF1 (io), 18 RF0 (io), 21 RA3 (io), 22 RA2 (io), 23 RA1 (io), 24 RA0 (io), 27 RA5 (io), 28 RA4 (io), 29 RC1 (io), 30 RC0 (io), 31 RC6 (io), 32 RC7 (io), 33 RC2 (io), 34 RC3 (io), 35 RC4 (io), 36 RC5 (io), 37 RB7 (io), 39 RA7 (io), 40 RA6 (io), 42 RB6 (io), 43 RB5 (io), 44 RB4 (io), 45 RB3 (io), 46 RB2 (io), 47 RB1 (io), 48 RB0 (io), 49 RD7 (io), 50 RD6 (io), 51 RD5 (io), 52 RD4 (io), 53 RD3 (io), 54 RD2 (io), 55 RD1 (io), 58 RD0 (io), 59 RE7 (io), 60 RE6 (io), 61 RE5 (io), 62 RE4 (io), 63 RE3 (io), 64 RE2 (io)
part B pins: 9 VSS (power) "Ground reference.", 10 VDD (power) "Positive supply.", 19 AVDD (power) "Analog positive supply.", 20 AVSS (power) "Analog ground reference.", 25 VSS (power) "Ground reference.", 26 VDD (power) "Positive supply.", 38 VDD (power) "Positive supply.", 41 VSS (power) "Ground reference.", 56 VSS (power) "Ground reference.", 57 VDD (power) "Positive supply.", 65 EP

## PIC16F1947T-I/PT
designator U?
Flash-Based, 8-Bit CMOS Microcontroller with LCD Driver and nanoWatt XLP Technology, 32 MHz, 53 I/O, -40 to 85 degC, 64-pin TQFP (PT64), Tape and Reel; Manufacturer: Microchip; PartNumber: PIC16F1947T-I/PT; # of A/D Channels: 17; Digital Communication: 2 -A/E/USART, 2 -MSSP(SPI/I2C); EEPROM Data Memory (bytes): 256; I/O Pins: 53; Internal Oscillator: 32 MHz, 31 kHz; Max. CPU Speed MHz: 32; Memory Type: Flash; Operation Voltage Range: 1.8V - 5.5V; Packing: T/R; Program Memory KBytes: 28; Program Memory KWords: 16; RAM: 1024; Timers: 4 - 8-bit, 1 - 16-bit; DatasheetVersion: Rev. D; PackageVersion: C04-085B, 12/2012; PackageReference: TQFP-PT64; PackageDescription: 64-Lead Plastic Thin Quad FlatPack, 10 x 10 mm Body, 0.5 mm Pitch; Supplier 1: Digi-Key; Supplier Part Number 1: PIC16F1947T-I/PT-ND; Supplier 2: Farnell; Supplier Part Number 2: 2318761; Supplier 3: Newark; Supplier Part Number 3: 86W6447; Supplier 4: Newark; Supplier Part Number 4: 14R8979; Supplier 5: Mouser; Supplier Part Number 5: 579-PIC16F1947T-I/PT; RoHS: TRUE; Mounting Technology: Surface Mount; ComponentLink1Description: Datasheet; ComponentLink1URL: http://ww1.microchip.com/downloads/en/DeviceDoc/41414D.pdf; ComponentLink2Description: Package Specification; ComponentLink2URL: http://www.microchip.com/stellent/groups/techpub_sg/documents/packagingspec/en012702.pdf; ComponentLink3Description: URL Link1; ComponentLink3URL: Product URL:http://www.microchip.com/datasheet/PIC16F1947
footprint MCHP-TQFP-PT64_N (TQFP, 64-Leads, Body 10x10mm, Pitch 0.5mm, IPC Medium Density)
footprint MCHP-TQFP-PT64_L (TQFP, 64-Leads, Body 10x10mm, Pitch 0.5mm, IPC High Density)
footprint MCHP-TQFP-PT64_M (TQFP, 64-Leads, Body 10x10mm, Pitch 0.5mm, IPC Low Density)
part A pins: 1 RE1 (io), 2 RE0 (io), 3 RG0 (io), 4 RG1 (io), 5 RG2 (io), 6 RG3 (io), 7 RG5/~{MCLR}/VPP (in), 8 RG4 (io), 11 RF7 (io), 12 RF6 (io), 13 RF5 (io), 14 RF4 (io), 15 RF3 (io), 16 RF2 (io), 17 RF1 (io), 18 RF0 (io), 21 RA3 (io), 22 RA2 (io), 23 RA1 (io), 24 RA0 (io), 27 RA5 (io), 28 RA4 (io), 29 RC1 (io), 30 RC0 (io), 31 RC6 (io), 32 RC7 (io), 33 RC2 (io), 34 RC3 (io), 35 RC4 (io), 36 RC5 (io), 37 RB7 (io), 39 RA7 (io), 40 RA6 (io), 42 RB6 (io), 43 RB5 (io), 44 RB4 (io), 45 RB3 (io), 46 RB2 (io), 47 RB1 (io), 48 RB0 (io), 49 RD7 (io), 50 RD6 (io), 51 RD5 (io), 52 RD4 (io), 53 RD3 (io), 54 RD2 (io), 55 RD1 (io), 58 RD0 (io), 59 RE7 (io), 60 RE6 (io), 61 RE5 (io), 62 RE4 (io), 63 RE3 (io), 64 RE2 (io)
part B pins: 9 VSS (power) "Ground reference.", 10 VDD (power) "Positive supply.", 19 AVDD (power) "Analog positive supply.", 20 AVSS (power) "Analog ground reference.", 25 VSS (power) "Ground reference.", 26 VDD (power) "Positive supply.", 38 VDD (power) "Positive supply.", 41 VSS (power) "Ground reference.", 56 VSS (power) "Ground reference.", 57 VDD (power) "Positive supply."

## PIC16HV753-E/ML
designator U?
Flash-Based 8-Bit CMOS Microcontrollers, 2K (x14-Bit words) Program Memory, 128 Bytes SRAM, 12 I/O, Extended Temperature, 16-Pin QFN (ML16), Tube; Manufacturer: Microchip; PartNumber: PIC16HV753-E/ML; VCC Range: 2.0 V to user defined; DatasheetVersion: Rev. B; PackageVersion: C04-127B, 04/2013; PackageReference: QFN-ML16; PackageDescription: 16-Lead Plastic Quad Flat No Lead Package, Body 4 x 4 mm, Pitch 0.65 mm; Supplier 1: Digi-Key; Supplier Part Number 1: PIC16HV753-E/ML-ND; Supplier 2: Newark; Supplier Part Number 2: 70W0230; Supplier 3: Mouser; Supplier Part Number 3: 579-PIC16HV753-E/ML; Packing: Tube; Mounting Technology: Surface Mount; ComponentLink1Description: Manufacturer URL; ComponentLink1URL: http://www.microchip.com/; ComponentLink2Description: Datasheet; ComponentLink2URL: http://ww1.microchip.com/downloads/en/DeviceDoc/40001709B.pdf; ComponentLink3Description: Package Specification; ComponentLink3URL: http://www.microchip.com/stellent/groups/techpub_sg/documents/packagingspec/en012702.pdf
footprint MCHP-QFN-ML16_N (QFN, 16-Leads, Body 4x4mm, Pitch 0.65mm, Thermal Pad 2.65x2.65mm, IPC Medium Density)
footprint MCHP-QFN-ML16_L (QFN, 16-Leads, Body 4x4mm, Pitch 0.65mm, Thermal Pad 2.65x2.65mm, IPC High Density)
footprint MCHP-QFN-ML16_M (QFN, 16-Leads, Body 4x4mm, Pitch 0.65mm, Thermal Pad 2.65x2.65mm, IPC Low Density)
pins: 1 RA5 (io), 2 RA4 (io), 3 ~{MCLR}/VPP/RA3 (in), 4 RC5 (io), 5 RC4 (io), 6 RC3 (io), 7 RC2 (io), 8 RC1 (io), 9 RC0 (io), 10 RA2 (io), 11 RA1/ICSPCLK (io), 12 RA0/ICSPDAT (io), 13 VSS (power) "Ground reference.", 14 NC "Not Connected", 15 NC "Not Connected", 16 VDD (power) "Positive supply.", 17 EP

## PIC16HV753-E/P
designator U?
Flash-Based 8-Bit CMOS Microcontrollers, 2K (x14-Bit words) Program Memory, 128 Bytes SRAM, 12 I/O, Extended Temperature, 14-Pin PDIP (P14), Tube; Manufacturer: Microchip; PartNumber: PIC16HV753-E/P; VCC Range: 2.0 V to user defined; DatasheetVersion: Rev. B; PackageVersion: C04-005B, 12/2012; PackageReference: PDIP-P14; PackageDescription: 14-Lead Plastic Dual In-Line, 6.6 x 19.18 mm Body, 2.54 mm Pitch; Supplier 1: Digi-Key; Supplier Part Number 1: PIC16HV753-E/P-ND; Supplier 2: Newark; Supplier Part Number 2: 70W0231; Supplier 3: Mouser; Supplier Part Number 3: 579-PIC16HV753-E/P; Packing: Tube; Mounting Technology: Through Hole; ComponentLink1Description: Manufacturer URL; ComponentLink1URL: http://www.microchip.com/; ComponentLink2Description: Datasheet; ComponentLink2URL: http://ww1.microchip.com/downloads/en/DeviceDoc/40001709B.pdf; ComponentLink3Description: Package Specification; ComponentLink3URL: http://www.microchip.com/stellent/groups/techpub_sg/documents/packagingspec/en012702.pdf
footprint MCHP-PDIP-P14 (DIP, 14-Leads, Body 19.177x6.604mm, Pitch 2.54mm)
pins: 1 VDD (power) "Positive supply.", 2 RA5 (io), 3 RA4 (io), 4 ~{MCLR}/VPP/RA3 (in), 5 RC5 (io), 6 RC4 (io), 7 RC3 (io), 8 RC2 (io), 9 RC1 (io), 10 RC0 (io), 11 RA2 (io), 12 RA1/ICSPCLK (io), 13 RA0/ICSPDAT (io), 14 VSS (power) "Ground reference."

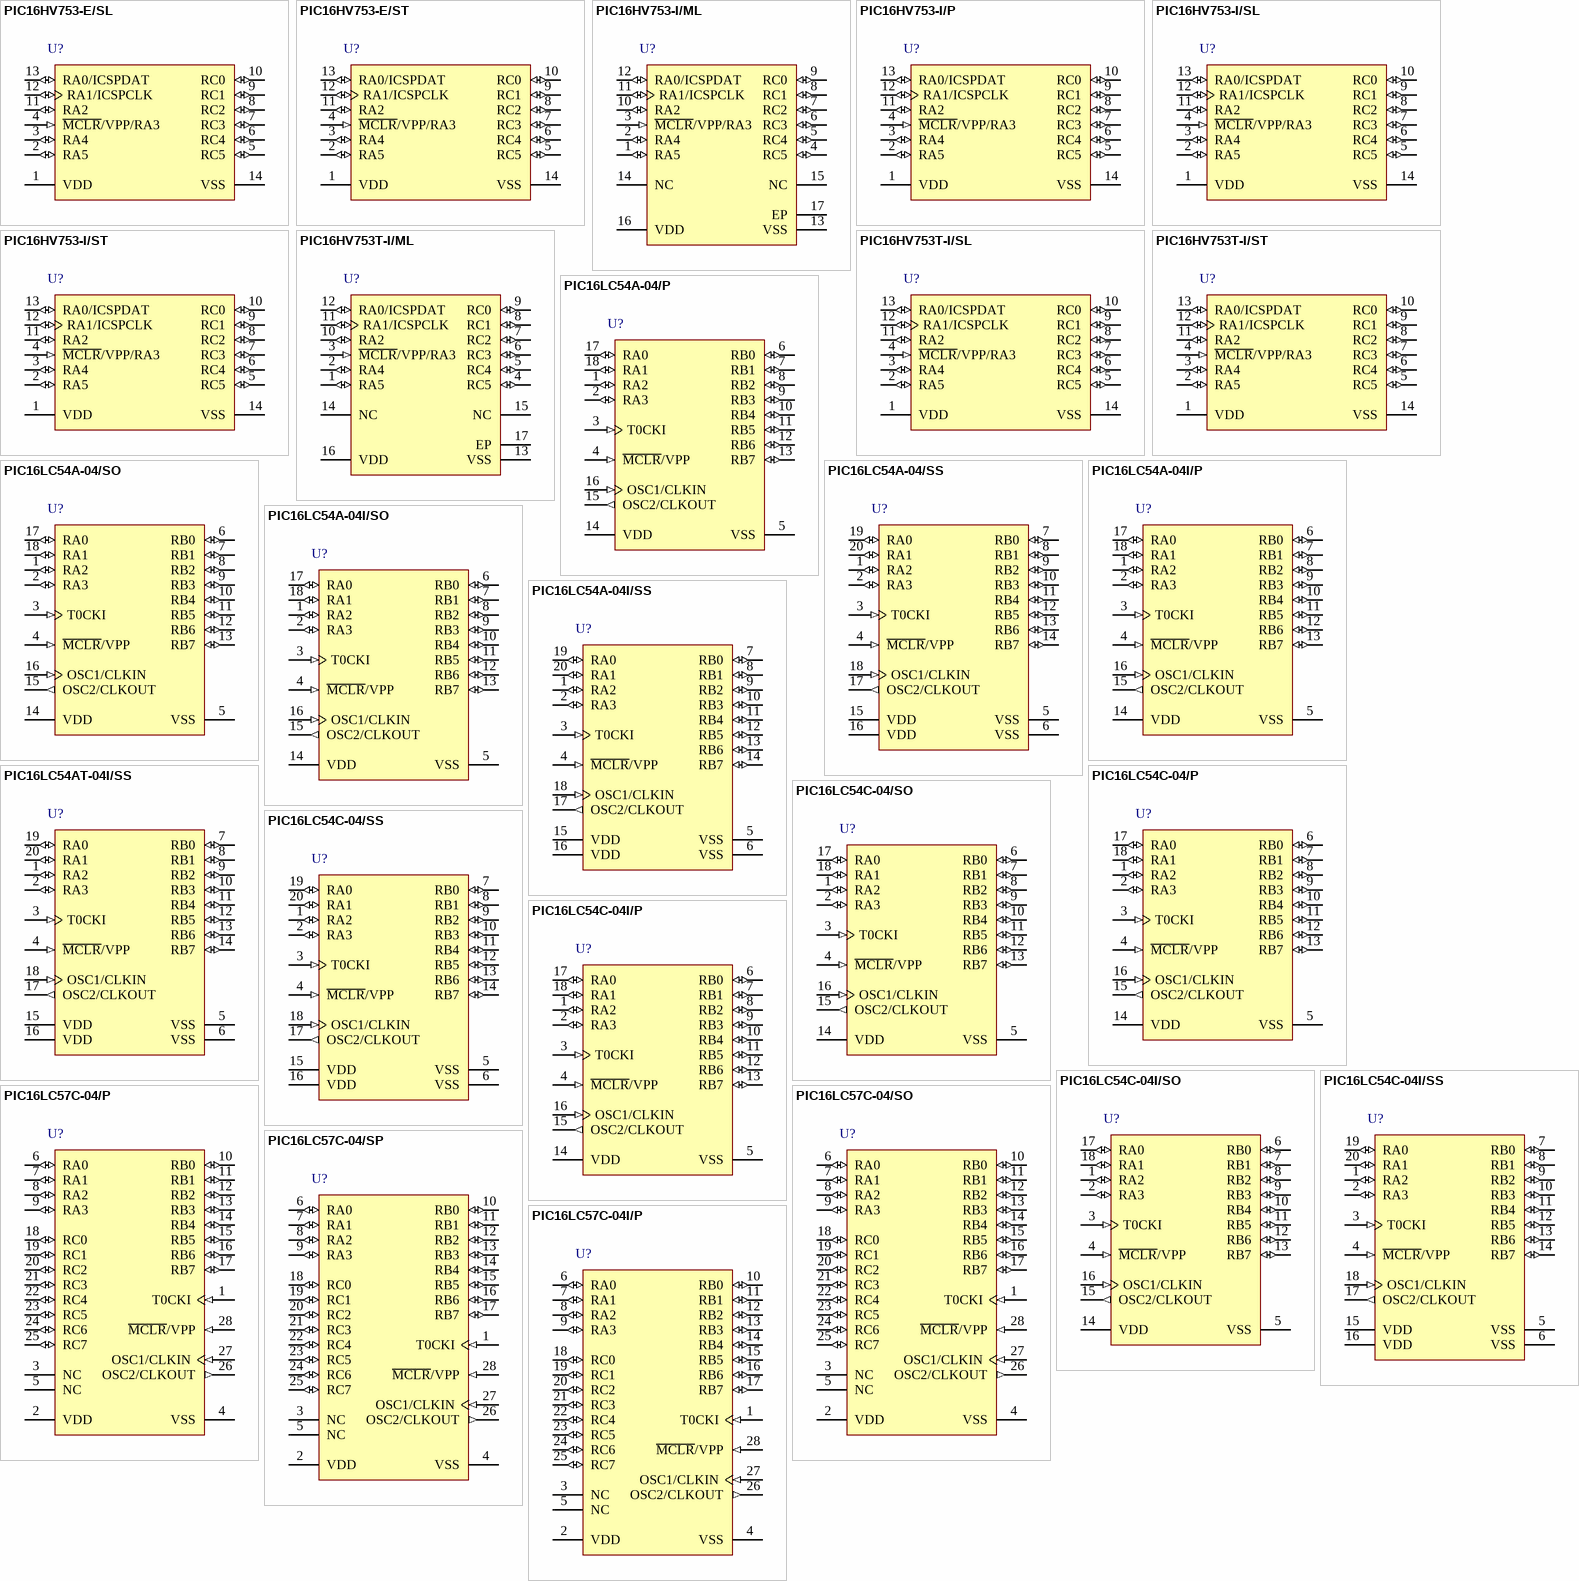
[diagram p65: symbols PIC16HV753-E/SL to PIC16LC57C-04I/P]

## PIC16HV753-E/SL
designator U?
Flash-Based 8-Bit CMOS Microcontrollers, 2K (x14-Bit words) Program Memory, 128 Bytes SRAM, 12 I/O, Extended Temperature, 14-Pin SOIC (SL14), Tube; Manufacturer: Microchip; PartNumber: PIC16HV753-E/SL; VCC Range: 2.0 V to user defined; DatasheetVersion: Rev. B; PackageVersion: C04-065C, 12/2012; PackageReference: SOIC-SL14; PackageDescription: 14-Lead Plastic Small Outline, 8.65 x 3.9 mm Body, 1.27 mm Pitch; Supplier 1: Digi-Key; Supplier Part Number 1: PIC16HV753-E/SL-ND; Supplier 2: Newark; Supplier Part Number 2: 70W0232; Supplier 3: Mouser; Supplier Part Number 3: 579-PIC16HV753-E/SL; Packing: Tube; Mounting Technology: Surface Mount; ComponentLink1Description: Manufacturer URL; ComponentLink1URL: http://www.microchip.com/; ComponentLink2Description: Datasheet; ComponentLink2URL: http://ww1.microchip.com/downloads/en/DeviceDoc/40001709B.pdf; ComponentLink3Description: Package Specification; ComponentLink3URL: http://www.microchip.com/stellent/groups/techpub_sg/documents/packagingspec/en012702.pdf
footprint MCHP-SOIC-SL14_N (SOIC, 14-Leads, Body 8.65x3.9mm, Pitch 1.27mm, IPC Medium Density)
footprint MCHP-SOIC-SL14_L (SOIC, 14-Leads, Body 8.65x3.9mm, Pitch 1.27mm, IPC High Density)
footprint MCHP-SOIC-SL14_M (SOIC, 14-Leads, Body 8.65x3.9mm, Pitch 1.27mm, IPC Low Density)
pins: 1 VDD (power) "Positive supply.", 2 RA5 (io), 3 RA4 (io), 4 ~{MCLR}/VPP/RA3 (in), 5 RC5 (io), 6 RC4 (io), 7 RC3 (io), 8 RC2 (io), 9 RC1 (io), 10 RC0 (io), 11 RA2 (io), 12 RA1/ICSPCLK (io), 13 RA0/ICSPDAT (io), 14 VSS (power) "Ground reference."

## PIC16HV753-E/ST
designator U?
Flash-Based 8-Bit CMOS Microcontrollers, 2K (x14-Bit words) Program Memory, 128 Bytes SRAM, 12 I/O, Extended Temperature, 14-Pin TSSOP (ST14), Tube; Manufacturer: Microchip; PartNumber: PIC16HV753-E/ST; VCC Range: 2.0 V to user defined; DatasheetVersion: Rev. B; PackageVersion: C04-087C, 12/2012; PackageReference: TSSOP-ST14; PackageDescription: 14-Lead Plastic Thin Shrink Small Outline, 5 x 4.4 mm Body, 0.65 mm Pitch; Supplier 1: Digi-Key; Supplier Part Number 1: PIC16HV753-E/ST-ND; Supplier 2: Newark; Supplier Part Number 2: 70W0233; Supplier 3: Mouser; Supplier Part Number 3: 579-PIC16HV753-E/ST; Packing: Tube; Mounting Technology: Surface Mount; ComponentLink1Description: Manufacturer URL; ComponentLink1URL: http://www.microchip.com/; ComponentLink2Description: Datasheet; ComponentLink2URL: http://ww1.microchip.com/downloads/en/DeviceDoc/40001709B.pdf; ComponentLink3Description: Package Specification; ComponentLink3URL: http://www.microchip.com/stellent/groups/techpub_sg/documents/packagingspec/en012702.pdf
footprint MCHP-TSSOP-ST14_N (SOP, 14-Leads, Body 5x4.4mm, Pitch 0.65mm, IPC Medium Density)
footprint MCHP-TSSOP-ST14_L (SOP, 14-Leads, Body 5x4.4mm, Pitch 0.65mm, IPC High Density)
footprint MCHP-TSSOP-ST14_M (SOP, 14-Leads, Body 5x4.4mm, Pitch 0.65mm, IPC Low Density)
pins: 1 VDD (power) "Positive supply.", 2 RA5 (io), 3 RA4 (io), 4 ~{MCLR}/VPP/RA3 (in), 5 RC5 (io), 6 RC4 (io), 7 RC3 (io), 8 RC2 (io), 9 RC1 (io), 10 RC0 (io), 11 RA2 (io), 12 RA1/ICSPCLK (io), 13 RA0/ICSPDAT (io), 14 VSS (power) "Ground reference."

## PIC16HV753-I/ML
designator U?
Flash-Based 8-Bit CMOS Microcontrollers, 2K (x14-Bit words) Program Memory, 128 Bytes SRAM, 12 I/O, Industrial Temperature, 16-Pin QFN (ML16), Tube; Manufacturer: Microchip; PartNumber: PIC16HV753-I/ML; VCC Range: 2.0 V to user defined; DatasheetVersion: Rev. B; PackageVersion: C04-127B, 04/2013; PackageReference: QFN-ML16; PackageDescription: 16-Lead Plastic Quad Flat No Lead Package, Body 4 x 4 mm, Pitch 0.65 mm; Supplier 1: Digi-Key; Supplier Part Number 1: PIC16HV753-I/ML-ND; Supplier 2: Newark; Supplier Part Number 2: 70W0234; Supplier 3: Mouser; Supplier Part Number 3: 579-PIC16HV753-I/ML; Packing: Tube; Mounting Technology: Surface Mount; ComponentLink1Description: Manufacturer URL; ComponentLink1URL: http://www.microchip.com/; ComponentLink2Description: Datasheet; ComponentLink2URL: http://ww1.microchip.com/downloads/en/DeviceDoc/40001709B.pdf; ComponentLink3Description: Package Specification; ComponentLink3URL: http://www.microchip.com/stellent/groups/techpub_sg/documents/packagingspec/en012702.pdf
footprint MCHP-QFN-ML16_N (QFN, 16-Leads, Body 4x4mm, Pitch 0.65mm, Thermal Pad 2.65x2.65mm, IPC Medium Density)
footprint MCHP-QFN-ML16_L (QFN, 16-Leads, Body 4x4mm, Pitch 0.65mm, Thermal Pad 2.65x2.65mm, IPC High Density)
footprint MCHP-QFN-ML16_M (QFN, 16-Leads, Body 4x4mm, Pitch 0.65mm, Thermal Pad 2.65x2.65mm, IPC Low Density)
pins: 1 RA5 (io), 2 RA4 (io), 3 ~{MCLR}/VPP/RA3 (in), 4 RC5 (io), 5 RC4 (io), 6 RC3 (io), 7 RC2 (io), 8 RC1 (io), 9 RC0 (io), 10 RA2 (io), 11 RA1/ICSPCLK (io), 12 RA0/ICSPDAT (io), 13 VSS (power) "Ground reference.", 14 NC "Not Connected", 15 NC "Not Connected", 16 VDD (power) "Positive supply.", 17 EP

## PIC16HV753-I/P
designator U?
Flash-Based 8-Bit CMOS Microcontrollers, 2K (x14-Bit words) Program Memory, 128 Bytes SRAM, 12 I/O, Industrial Temperature, 14-Pin PDIP (P14), Tube; Manufacturer: Microchip; PartNumber: PIC16HV753-I/P; VCC Range: 2.0 V to user defined; DatasheetVersion: Rev. B; PackageVersion: C04-005B, 12/2012; PackageReference: PDIP-P14; PackageDescription: 14-Lead Plastic Dual In-Line, 6.6 x 19.18 mm Body, 2.54 mm Pitch; Supplier 1: Digi-Key; Supplier Part Number 1: PIC16HV753-I/P-ND; Supplier 2: Newark; Supplier Part Number 2: 70W0235; Supplier 3: Mouser; Supplier Part Number 3: 579-PIC16HV753-I/P; Packing: Tube; Mounting Technology: Through Hole; ComponentLink1Description: Manufacturer URL; ComponentLink1URL: http://www.microchip.com/; ComponentLink2Description: Datasheet; ComponentLink2URL: http://ww1.microchip.com/downloads/en/DeviceDoc/40001709B.pdf; ComponentLink3Description: Package Specification; ComponentLink3URL: http://www.microchip.com/stellent/groups/techpub_sg/documents/packagingspec/en012702.pdf
footprint MCHP-PDIP-P14 (DIP, 14-Leads, Body 19.177x6.604mm, Pitch 2.54mm)
pins: 1 VDD (power) "Positive supply.", 2 RA5 (io), 3 RA4 (io), 4 ~{MCLR}/VPP/RA3 (in), 5 RC5 (io), 6 RC4 (io), 7 RC3 (io), 8 RC2 (io), 9 RC1 (io), 10 RC0 (io), 11 RA2 (io), 12 RA1/ICSPCLK (io), 13 RA0/ICSPDAT (io), 14 VSS (power) "Ground reference."

## PIC16HV753-I/SL
designator U?
Flash-Based 8-Bit CMOS Microcontrollers, 2K (x14-Bit words) Program Memory, 128 Bytes SRAM, 12 I/O, Industrial Temperature, 14-Pin SOIC (SL14), Tube; Manufacturer: Microchip; PartNumber: PIC16HV753-I/SL; VCC Range: 2.0 V to user defined; DatasheetVersion: Rev. B; PackageVersion: C04-065C, 12/2012; PackageReference: SOIC-SL14; PackageDescription: 14-Lead Plastic Small Outline, 8.65 x 3.9 mm Body, 1.27 mm Pitch; Supplier 1: Digi-Key; Supplier Part Number 1: PIC16HV753-I/SL-ND; Supplier 2: Newark; Supplier Part Number 2: 70W0236; Supplier 3: Mouser; Supplier Part Number 3: 579-PIC16HV753-I/SL; Packing: Tube; Mounting Technology: Surface Mount; ComponentLink1Description: Manufacturer URL; ComponentLink1URL: http://www.microchip.com/; ComponentLink2Description: Datasheet; ComponentLink2URL: http://ww1.microchip.com/downloads/en/DeviceDoc/40001709B.pdf; ComponentLink3Description: Package Specification; ComponentLink3URL: http://www.microchip.com/stellent/groups/techpub_sg/documents/packagingspec/en012702.pdf
footprint MCHP-SOIC-SL14_N (SOIC, 14-Leads, Body 8.65x3.9mm, Pitch 1.27mm, IPC Medium Density)
footprint MCHP-SOIC-SL14_L (SOIC, 14-Leads, Body 8.65x3.9mm, Pitch 1.27mm, IPC High Density)
footprint MCHP-SOIC-SL14_M (SOIC, 14-Leads, Body 8.65x3.9mm, Pitch 1.27mm, IPC Low Density)
pins: 1 VDD (power) "Positive supply.", 2 RA5 (io), 3 RA4 (io), 4 ~{MCLR}/VPP/RA3 (in), 5 RC5 (io), 6 RC4 (io), 7 RC3 (io), 8 RC2 (io), 9 RC1 (io), 10 RC0 (io), 11 RA2 (io), 12 RA1/ICSPCLK (io), 13 RA0/ICSPDAT (io), 14 VSS (power) "Ground reference."

## PIC16HV753-I/ST
designator U?
Flash-Based 8-Bit CMOS Microcontrollers, 2K (x14-Bit words) Program Memory, 128 Bytes SRAM, 12 I/O, Industrial Temperature, 14-Pin TSSOP (ST14), Tube; Manufacturer: Microchip; PartNumber: PIC16HV753-I/ST; VCC Range: 2.0 V to user defined; DatasheetVersion: Rev. B; PackageVersion: C04-087C, 12/2012; PackageReference: TSSOP-ST14; PackageDescription: 14-Lead Plastic Thin Shrink Small Outline, 5 x 4.4 mm Body, 0.65 mm Pitch; Supplier 1: Digi-Key; Supplier Part Number 1: PIC16HV753-I/ST-ND; Supplier 2: Newark; Supplier Part Number 2: 70W0237; Supplier 3: Mouser; Supplier Part Number 3: 579-PIC16HV753-I/ST; Packing: Tube; Mounting Technology: Surface Mount; ComponentLink1Description: Manufacturer URL; ComponentLink1URL: http://www.microchip.com/; ComponentLink2Description: Datasheet; ComponentLink2URL: http://ww1.microchip.com/downloads/en/DeviceDoc/40001709B.pdf; ComponentLink3Description: Package Specification; ComponentLink3URL: http://www.microchip.com/stellent/groups/techpub_sg/documents/packagingspec/en012702.pdf
footprint MCHP-TSSOP-ST14_N (SOP, 14-Leads, Body 5x4.4mm, Pitch 0.65mm, IPC Medium Density)
footprint MCHP-TSSOP-ST14_L (SOP, 14-Leads, Body 5x4.4mm, Pitch 0.65mm, IPC High Density)
footprint MCHP-TSSOP-ST14_M (SOP, 14-Leads, Body 5x4.4mm, Pitch 0.65mm, IPC Low Density)
pins: 1 VDD (power) "Positive supply.", 2 RA5 (io), 3 RA4 (io), 4 ~{MCLR}/VPP/RA3 (in), 5 RC5 (io), 6 RC4 (io), 7 RC3 (io), 8 RC2 (io), 9 RC1 (io), 10 RC0 (io), 11 RA2 (io), 12 RA1/ICSPCLK (io), 13 RA0/ICSPDAT (io), 14 VSS (power) "Ground reference."

## PIC16HV753T-I/ML
designator U?
Flash-Based 8-Bit CMOS Microcontrollers, 2K (x14-Bit words) Program Memory, 128 Bytes SRAM, 12 I/O, Industrial Temperature, 16-Pin QFN (ML16), Tape and Reel; Manufacturer: Microchip; PartNumber: PIC16HV753T-I/ML; VCC Range: 2.0 V to user defined; DatasheetVersion: Rev. B; PackageVersion: C04-127B, 04/2013; PackageReference: QFN-ML16; PackageDescription: 16-Lead Plastic Quad Flat No Lead Package, Body 4 x 4 mm, Pitch 0.65 mm; Supplier 1: Digi-Key; Supplier Part Number 1: PIC16HV753T-I/ML-ND; Supplier 2: Newark; Supplier Part Number 2: 70W0238; Supplier 3: Mouser; Supplier Part Number 3: 579-PIC16HV753T-I/ML; Packing: Tape and Reel; Mounting Technology: Surface Mount; ComponentLink1Description: Manufacturer URL; ComponentLink1URL: http://www.microchip.com/; ComponentLink2Description: Datasheet; ComponentLink2URL: http://ww1.microchip.com/downloads/en/DeviceDoc/40001709B.pdf; ComponentLink3Description: Package Specification; ComponentLink3URL: http://www.microchip.com/stellent/groups/techpub_sg/documents/packagingspec/en012702.pdf
footprint MCHP-QFN-ML16_N (QFN, 16-Leads, Body 4x4mm, Pitch 0.65mm, Thermal Pad 2.65x2.65mm, IPC Medium Density)
footprint MCHP-QFN-ML16_L (QFN, 16-Leads, Body 4x4mm, Pitch 0.65mm, Thermal Pad 2.65x2.65mm, IPC High Density)
footprint MCHP-QFN-ML16_M (QFN, 16-Leads, Body 4x4mm, Pitch 0.65mm, Thermal Pad 2.65x2.65mm, IPC Low Density)
pins: 1 RA5 (io), 2 RA4 (io), 3 ~{MCLR}/VPP/RA3 (in), 4 RC5 (io), 5 RC4 (io), 6 RC3 (io), 7 RC2 (io), 8 RC1 (io), 9 RC0 (io), 10 RA2 (io), 11 RA1/ICSPCLK (io), 12 RA0/ICSPDAT (io), 13 VSS (power) "Ground reference.", 14 NC "Not Connected", 15 NC "Not Connected", 16 VDD (power) "Positive supply.", 17 EP

## PIC16HV753T-I/SL
designator U?
Flash-Based 8-Bit CMOS Microcontrollers, 2K (x14-Bit words) Program Memory, 128 Bytes SRAM, 12 I/O, Industrial Temperature, 14-Pin SOIC (SL14), Tape and Reel; Manufacturer: Microchip; PartNumber: PIC16HV753T-I/SL; VCC Range: 2.0 V to user defined; DatasheetVersion: Rev. B; PackageVersion: C04-065C, 12/2012; PackageReference: SOIC-SL14; PackageDescription: 14-Lead Plastic Small Outline, 8.65 x 3.9 mm Body, 1.27 mm Pitch; Supplier 1: Digi-Key; Supplier Part Number 1: PIC16HV753T-I/SL-ND; Supplier 2: Newark; Supplier Part Number 2: 70W0239; Supplier 3: Mouser; Supplier Part Number 3: 579-PIC16HV753T-I/SL; Packing: Tape and Reel; Mounting Technology: Surface Mount; ComponentLink1Description: Manufacturer URL; ComponentLink1URL: http://www.microchip.com/; ComponentLink2Description: Datasheet; ComponentLink2URL: http://ww1.microchip.com/downloads/en/DeviceDoc/40001709B.pdf; ComponentLink3Description: Package Specification; ComponentLink3URL: http://www.microchip.com/stellent/groups/techpub_sg/documents/packagingspec/en012702.pdf
footprint MCHP-SOIC-SL14_N (SOIC, 14-Leads, Body 8.65x3.9mm, Pitch 1.27mm, IPC Medium Density)
footprint MCHP-SOIC-SL14_L (SOIC, 14-Leads, Body 8.65x3.9mm, Pitch 1.27mm, IPC High Density)
footprint MCHP-SOIC-SL14_M (SOIC, 14-Leads, Body 8.65x3.9mm, Pitch 1.27mm, IPC Low Density)
pins: 1 VDD (power) "Positive supply.", 2 RA5 (io), 3 RA4 (io), 4 ~{MCLR}/VPP/RA3 (in), 5 RC5 (io), 6 RC4 (io), 7 RC3 (io), 8 RC2 (io), 9 RC1 (io), 10 RC0 (io), 11 RA2 (io), 12 RA1/ICSPCLK (io), 13 RA0/ICSPDAT (io), 14 VSS (power) "Ground reference."

## PIC16HV753T-I/ST
designator U?
Flash-Based 8-Bit CMOS Microcontrollers, 2K (x14-Bit words) Program Memory, 128 Bytes SRAM, 12 I/O, Industrial Temperature, 14-Pin TSSOP (ST14), Tape and Reel; Manufacturer: Microchip; PartNumber: PIC16HV753T-I/ST; VCC Range: 2.0 V to user defined; DatasheetVersion: Rev. B; PackageVersion: C04-087C, 12/2012; PackageReference: TSSOP-ST14; PackageDescription: 14-Lead Plastic Thin Shrink Small Outline, 5 x 4.4 mm Body, 0.65 mm Pitch; Supplier 1: Digi-Key; Supplier Part Number 1: PIC16HV753T-I/ST-ND; Supplier 2: Newark; Supplier Part Number 2: 70W0240; Supplier 3: Mouser; Supplier Part Number 3: 579-PIC16HV753T-I/ST; Packing: Tape and Reel; Mounting Technology: Surface Mount; ComponentLink1Description: Manufacturer URL; ComponentLink1URL: http://www.microchip.com/; ComponentLink2Description: Datasheet; ComponentLink2URL: http://ww1.microchip.com/downloads/en/DeviceDoc/40001709B.pdf; ComponentLink3Description: Package Specification; ComponentLink3URL: http://www.microchip.com/stellent/groups/techpub_sg/documents/packagingspec/en012702.pdf
footprint MCHP-TSSOP-ST14_N (SOP, 14-Leads, Body 5x4.4mm, Pitch 0.65mm, IPC Medium Density)
footprint MCHP-TSSOP-ST14_L (SOP, 14-Leads, Body 5x4.4mm, Pitch 0.65mm, IPC High Density)
footprint MCHP-TSSOP-ST14_M (SOP, 14-Leads, Body 5x4.4mm, Pitch 0.65mm, IPC Low Density)
pins: 1 VDD (power) "Positive supply.", 2 RA5 (io), 3 RA4 (io), 4 ~{MCLR}/VPP/RA3 (in), 5 RC5 (io), 6 RC4 (io), 7 RC3 (io), 8 RC2 (io), 9 RC1 (io), 10 RC0 (io), 11 RA2 (io), 12 RA1/ICSPCLK (io), 13 RA0/ICSPDAT (io), 14 VSS (power) "Ground reference."